# EAGLE library part MEGA8L-DEV (library atmega8)
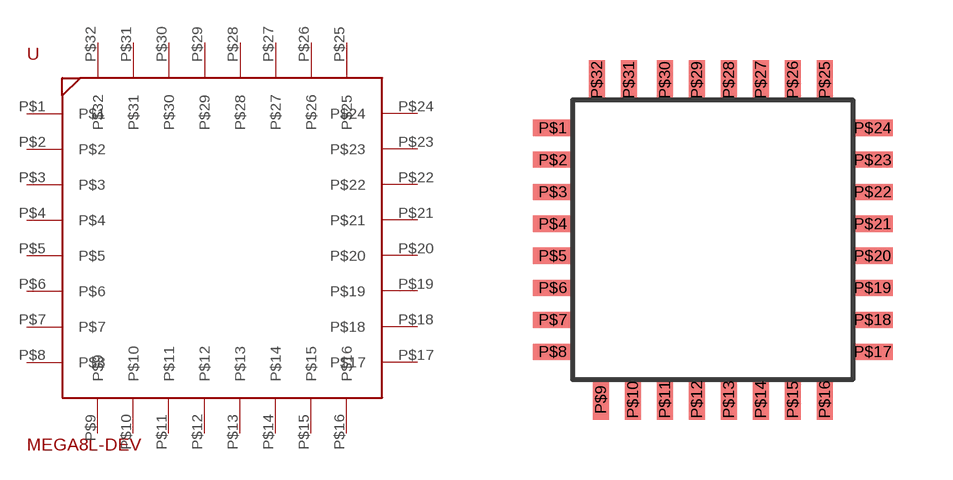
[diagram p0: symbol with the pads of TPFQMEGA8; footprint TPFQMEGA8]

Designator prefix -

## MEGA8L-DEV  [TPFQMEGA8]
P$1  P$1
P$2  P$2
P$3  P$3
P$4  P$4
P$5  P$5
P$6  P$6
P$7  P$7
P$8  P$8
P$9  P$9
P$10  P$10
P$11  P$11
P$12  P$12
P$13  P$13
P$14  P$14
P$15  P$15
P$16  P$16
P$17  P$17
P$18  P$18
P$19  P$19
P$20  P$20
P$21  P$21
P$22  P$22
P$23  P$23
P$24  P$24
P$25  P$25
P$26  P$26
P$27  P$27
P$28  P$28
P$29  P$29
P$30  P$30
P$31  P$31
P$32  P$32

## Footprint TPFQMEGA8 (pad centres in mm)
smd 1 x 0.4: P$1 -3.9,2.9; P$2 -3.9,2.1; P$3 -3.9,1.3; P$4 -3.9,0.5; P$5 -3.9,-0.3; P$6 -3.9,-1.1; P$7 -3.9,-1.9; P$8 -3.9,-2.7; P$17 4.1,-2.7; P$18 4.1,-1.9; P$19 4.1,-1.1; P$20 4.1,-0.3; P$21 4.1,0.5; P$22 4.1,1.3; P$23 4.1,2.1; P$24 4.1,2.9
smd 0.4 x 1: P$9 -2.7,-3.9; P$10 -1.9,-3.9; P$11 -1.1,-3.9; P$12 -0.3,-3.9; P$13 0.5,-3.9; P$14 1.3,-3.9; P$15 2.1,-3.9; P$16 2.9,-3.9; P$25 2.9,4.1; P$26 2.1,4.1; P$27 1.3,4.1; P$28 0.5,4.1; P$29 -0.3,4.1; P$30 -1.1,4.1; P$31 -2,4.1; P$32 -2.8,4.1